# Altium schematic symbol library SCH - POWER - LINEAR VREG - TI LM117HVH.SchLib: 1 symbol
Pins are listed as number, name and electrical type; pins without a type are passive.

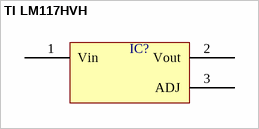
[diagram p0: symbol TI LM117HVH]

## TI LM117HVH
designator IC?  (value not drawn)
pins: 1 Vin, 2 Vout, 3 ADJ